# EAGLE library part OPA2202IDR (library OPA2202IDR)
Operational Amplifiers - Op Amps Low noise (0.2- uVPP, 9-nV/ Hz), heavy capacitive drive (25-nF), super beta, precision op amp, dual 8-SOIC -40 to 150 Source: Datasheet <https://www.ti.com/lit/ds/symlink/opa2202.pdf>
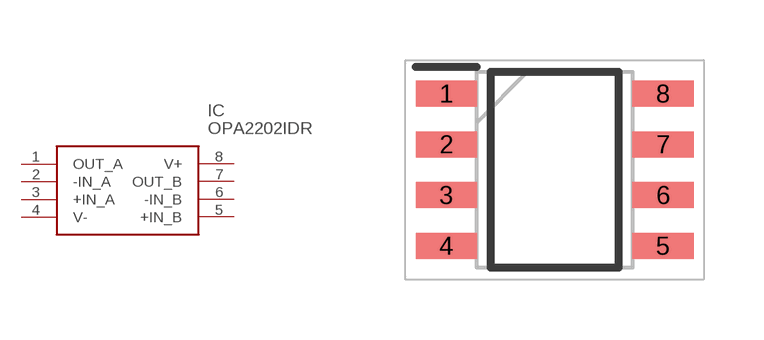
[diagram p0: symbol with the pads of SOIC127P600X175-8N; footprint SOIC127P600X175-8N]

Designator prefix IC

## OPA2202IDR (Description: Operational Amplifiers - Op Amps Low noise (0.2- uVPP, 9-nV/ Hz), heavy capacitive drive (25-nF), super beta, precision op amp, dual 8-SOIC -40 to 150; Height: 1.75mm; Manufacturer_Name: Texas Instruments; Manufacturer_Part_Number: OPA2202IDR; Mouser_Part_Number: 595-OPA2202IDR; Mouser_Price-Stock: https://www.mouser.co.uk/ProductDetail/Texas-Instruments/OPA2202IDR?qs=T94vaHKWudT4AJaF64Y1cw%3D%3D)  [SOIC127P600X175-8N]
1  OUT_A
2  -IN_A
3  +IN_A
4  V-
5  +IN_B
6  -IN_B
7  OUT_B
8  V+

## Footprint SOIC127P600X175-8N (pad centres in mm)
D0008A
smd 1.528 x 0.65: 1 -2.711,1.905; 2 -2.711,0.635; 3 -2.711,-0.635; 4 -2.711,-1.905; 5 2.711,-1.905; 6 2.711,-0.635; 7 2.711,0.635; 8 2.711,1.905